# Altium schematic symbol library STMicroelectronics.SchLib: 3 symbols
Pins are listed as number, name and electrical type; pins without a type are passive.

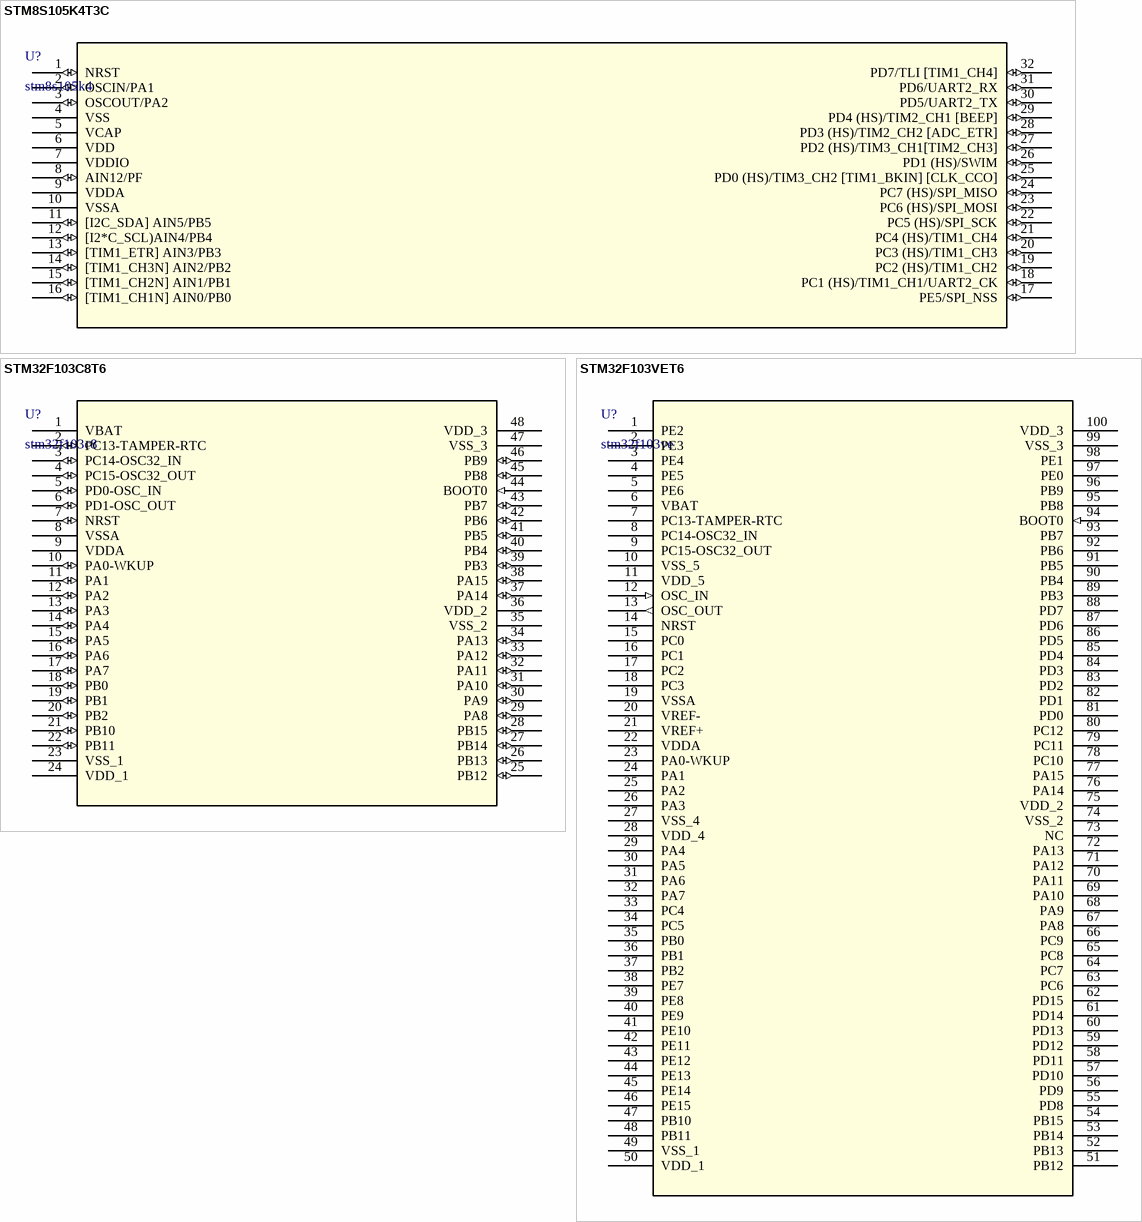
[diagram p0: symbols STM8S105K4T3C to STM32F103VET6]

## STM8S105K4T3C
designator U?, comment stm8s105k4
STMicroelectronics; Manufacturer_Part_Number: STM8S105K4T3C; Core_Processor: STM8; Core_Size: 8-Bit; Speed: 16MHz; Connectivity: I²C, IrDA, LIN, SPI, UART/USART; Peripherals: Brown-out Detect/Reset, POR, PWM, WDT; Number_of_I_/O: 25; Program_Memory_Size: 16KB (16K x 8); Program_Memory_Type: FLASH; EEPROM_Size: 1K x 8; RAM_Size: 2K x 8; Voltage_-_Supply_(Vcc/Vdd): 2.95 V ~ 5.5 V; Data_Converters: A/D 7x10b; Oscillator_Type: Internal; Operating_Temperature: -40°C ~ 125°C; C: Copyright (C) 2015 Accelerated Designs. All rights reserved; Vendor: ST Microelectronics; DigiKeyPartNumber: 497-11583-ND; Quantity_Available: 1500; Copyright: Copyright (C) 2015 Accelerated Designs. All rights reserved; DataSheet: http://www.st.com/internet/com/TECHNICAL_RESOURCES/TECHNICAL_LITERATURE/DATASHEET/CD00200092.pdf; Package_/_Case: 32-LQFP; Packaging: Tray; Value: Value; Type: Type; RefDes: RefDes
footprint LQFP-32(STMicroelectronics) (STMicroelectronics(1.6mm infact))
footprint LQFP-32-L(STMicroelectronics) (STMicroelectronics(1.6mm infact))
footprint LQFP-32-M(STMicroelectronics) (STMicroelectronics(1.6mm infact))
pins: 1 NRST (io), 2 OSCIN/PA1 (io), 3 OSCOUT/PA2 (io), 4 VSS (power), 5 VCAP (power), 6 VDD (power), 7 VDDIO (power), 8 AIN12/PF (io), 9 VDDA (power), 10 VSSA (power), 11 [I2C_SDA] AIN5/PB5 (io), 12 [I2*C_SCL)AIN4/PB4 (io), 13 [TIM1_ETR] AIN3/PB3 (io), 14 [TIM1_CH3N] AIN2/PB2 (io), 15 [TIM1_CH2N] AIN1/PB1 (io), 16 [TIM1_CH1N] AIN0/PB0 (io), 17 PE5/SPI_NSS (io), 18 PC1 (HS)/TIM1_CH1/UART2_CK (io), 19 PC2 (HS)/TIM1_CH2 (io), 20 PC3 (HS)/TIM1_CH3 (io), 21 PC4 (HS)/TIM1_CH4 (io), 22 PC5 (HS)/SPI_SCK (io), 23 PC6 (HS)/SPI_MOSI (io), 24 PC7 (HS)/SPI_MISO (io), 25 PD0 (HS)/TIM3_CH2 [TIM1_BKIN] [CLK_CCO] (io), 26 PD1 (HS)/SWIM (io), 27 PD2 (HS)/TIM3_CH1[TIM2_CH3] (io), 28 PD3 (HS)/TIM2_CH2 [ADC_ETR] (io), 29 PD4 (HS)/TIM2_CH1 [BEEP] (io), 30 PD5/UART2_TX (io), 31 PD6/UART2_RX (io), 32 PD7/TLI [TIM1_CH4] (io)

## STM32F103C8T6
designator U?, comment stm32f103c8
STMicroelectronics; Manufacturer_Part_Number: STM32F103C8T6; Core_Processor: ARMÂ® Cortexâ„?M3; Core_Size: 32-Bit; Speed: 72MHz; Connectivity: CAN, I²C, IrDA, LIN, SPI, UART/USART, USB; Peripherals: DMA, Motor Control PWM, PDR, POR, PVD, PWM, Temp Sensor, WDT; Number_of_I_/O: 37; Program_Memory_Size: 64KB (64K x 8); Program_Memory_Type: FLASH; RAM_Size: 20K x 8; Voltage_-_Supply_(Vcc/Vdd): 2 V ~ 3.6 V; Data_Converters: A/D 10x12b; Oscillator_Type: Internal; Operating_Temperature: -40°C ~ 85°C; C: Copyright (C) 2015 Accelerated Designs. All rights reserved; Vendor: ST Microelectronics; DigiKeyPartNumber: 497-6063-ND; Quantity_Available: 1378; Copyright: Copyright (C) 2015 Accelerated Designs. All rights reserved; DataSheet: http://www.st.com/internet/com/TECHNICAL_RESOURCES/TECHNICAL_LITERATURE/DATASHEET/CD00161566.pdf; EEPROM_Size: -; Package_/_Case: 48-LQFP; Packaging: Tray; Value: Value; Type: Type; RefDes: RefDes
footprint LQFP-48(STMicroelectronics) (STMicroelectronics(1.6mm infact))
footprint LQFP-48-L(STMicroelectronics) (STMicroelectronics(1.6mm infact))
footprint LQFP-48-M(STMicroelectronics) (STMicroelectronics(1.6mm infact))
pins: 1 VBAT (power), 2 PC13-TAMPER-RTC (io), 3 PC14-OSC32_IN (io), 4 PC15-OSC32_OUT (io), 5 PD0-OSC_IN (io), 6 PD1-OSC_OUT (io), 7 NRST (io), 8 VSSA (power), 9 VDDA (power), 10 PA0-WKUP (io), 11 PA1 (io), 12 PA2 (io), 13 PA3 (io), 14 PA4 (io), 15 PA5 (io), 16 PA6 (io), 17 PA7 (io), 18 PB0 (io), 19 PB1 (io), 20 PB2 (io), 21 PB10 (io), 22 PB11 (io), 23 VSS_1 (power), 24 VDD_1 (power), 25 PB12 (io), 26 PB13 (io), 27 PB14 (io), 28 PB15 (io), 29 PA8 (io), 30 PA9 (io), 31 PA10 (io), 32 PA11 (io), 33 PA12 (io), 34 PA13 (io), 35 VSS_2 (power), 36 VDD_2 (power), 37 PA14 (io), 38 PA15 (io), 39 PB3 (io), 40 PB4 (io), 41 PB5 (io), 42 PB6 (io), 43 PB7 (io), 44 BOOT0 (in), 45 PB8 (io), 46 PB9 (io), 47 VSS_3 (power), 48 VDD_3 (power)

## STM32F103VET6
designator U?, comment stm32f103ve
STMicroelectronics; Manufacturer_Part_Number: STM32F103VET6; Core_Processor: ARMÂ® Cortexâ„?M3; Core_Size: 32-Bit; Speed: 72MHz; Connectivity: CAN, I²C, IrDA, LIN, SPI, UART/USART, USB; Peripherals: DMA, Motor Control PWM, PDR, POR, PVD, PWM, Temp Sensor, WDT; Number_of_I_/O: 80; Program_Memory_Size: 512KB (512K x 8); Program_Memory_Type: FLASH; RAM_Size: 64K x 8; Voltage_-_Supply_(Vcc/Vdd): 2 V ~ 3.6 V; Data_Converters: A/D 16x12b; D/A 2x12b; Oscillator_Type: Internal; Operating_Temperature: -40°C ~ 85°C; C: Copyright (C) 2015 Accelerated Designs. All rights reserved; Vendor: ST Microelectronics; DigiKeyPartNumber: 497-6443-ND; Quantity_Available: 3960; Copyright: Copyright (C) 2015 Accelerated Designs. All rights reserved; DataSheet: http://www.st.com/internet/com/TECHNICAL_RESOURCES/TECHNICAL_LITERATURE/DATASHEET/CD00191185.pdf; EEPROM_Size: -; Package_/_Case: 100-LQFP; Packaging: Tray; Value: Value; Type: Type; RefDes: RefDes
footprint LQFP-100(STMicroelectronics) (STMicroelectronics)
footprint LQFP-100-L(STMicroelectronics) (STMicroelectronics)
footprint LQFP-100-M(STMicroelectronics) (STMicroelectronics)
pins: 1 PE2, 2 PE3, 3 PE4, 4 PE5, 5 PE6, 6 VBAT (power), 7 PC13-TAMPER-RTC, 8 PC14-OSC32_IN, 9 PC15-OSC32_OUT, 10 VSS_5 (power), 11 VDD_5 (power), 12 OSC_IN (in), 13 OSC_OUT (out), 14 NRST, 15 PC0, 16 PC1, 17 PC2, 18 PC3, 19 VSSA (power), 20 VREF- (power), 21 VREF+ (power), 22 VDDA (power), 23 PA0-WKUP, 24 PA1, 25 PA2, 26 PA3, 27 VSS_4 (power), 28 VDD_4 (power), 29 PA4, 30 PA5, 31 PA6, 32 PA7, 33 PC4, 34 PC5, 35 PB0, 36 PB1, 37 PB2, 38 PE7, 39 PE8, 40 PE9, 41 PE10, 42 PE11, 43 PE12, 44 PE13, 45 PE14, 46 PE15, 47 PB10, 48 PB11, 49 VSS_1 (power), 50 VDD_1 (power), 51 PB12, 52 PB13, 53 PB14, 54 PB15, 55 PD8, 56 PD9, 57 PD10, 58 PD11, 59 PD12, 60 PD13, 61 PD14, 62 PD15, 63 PC6, 64 PC7, 65 PC8, 66 PC9, 67 PA8, 68 PA9, 69 PA10, 70 PA11, 71 PA12, 72 PA13, 73 NC, 74 VSS_2 (power), 75 VDD_2 (power), 76 PA14, 77 PA15, 78 PC10, 79 PC11, 80 PC12, 81 PD0, 82 PD1, 83 PD2, 84 PD3, 85 PD4, 86 PD5, 87 PD6, 88 PD7, 89 PB3, 90 PB4, 91 PB5, 92 PB6, 93 PB7, 94 BOOT0 (in), 95 PB8, 96 PB9, 97 PE0, 98 PE1, 99 VSS_3 (power), 100 VDD_3 (power)